# Altium footprint library Connectors_2mm.PcbLib: 81 footprints (part 6 of 6)
Each footprint in its own frame and in the unit in brackets; x right, y up, seen from the top. Pads: shape width x height; smd on the part's side, far side on the other; paste and mask are expansions set on the pad; w line width, h text height; cw(c..) or ccw(c..) is an arc to the next point about the centre after c.
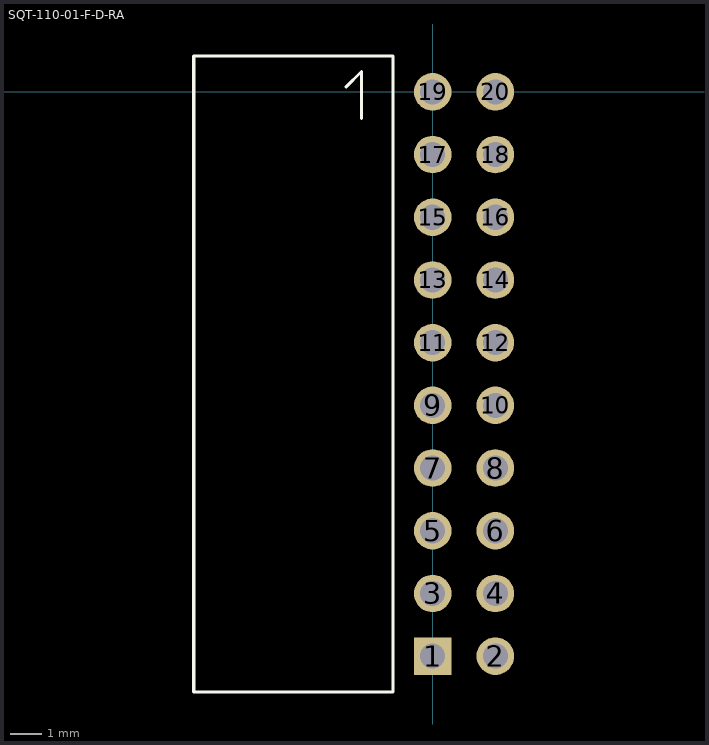
[diagram p5: the footprint, top view; thin cyan lines are the x and y axes]

## SQT-110-01-F-D-RA [mm]
pads (20):
  rect 1.2x1.2 hole 0.8: 1(0,-18)
  round 1.2 hole 0.8: 2(2,-18) 3(0,-16) 4(2,-16) 5(0,-14) 6(2,-14) 7(0,-12) 8(2,-12) 9(0,-10) 10(2,-10) 11(0,-8) 12(2,-8) 13(0,-6) 14(2,-6) 15(0,-4) 16(2,-4) 17(0,-2) 18(2,-2) 19(0,0) 20(2,0)
Top Overlay:
  lines w0.1: -2.77,0.15 -2.27,0.65 -2.27,-0.85 ; -7.62,-19.15 -1.27,-19.15 -1.27,1.15 -7.62,1.15 -7.62,-19.15
3D body "SQT-110-01-F-D-RA.stp": height 4, standoff -2.29, extent -7.62,-19.147 2.25,1.15